# Altium footprint library SFMC-107-02.PcbLib: 1 footprints
Each footprint in its own frame and in the unit in brackets; x right, y up, seen from the top. Pads: shape width x height; smd on the part's side, far side on the other; paste and mask are expansions set on the pad; w line width, h text height; cw(c..) or ccw(c..) is an arc to the next point about the centre after c.
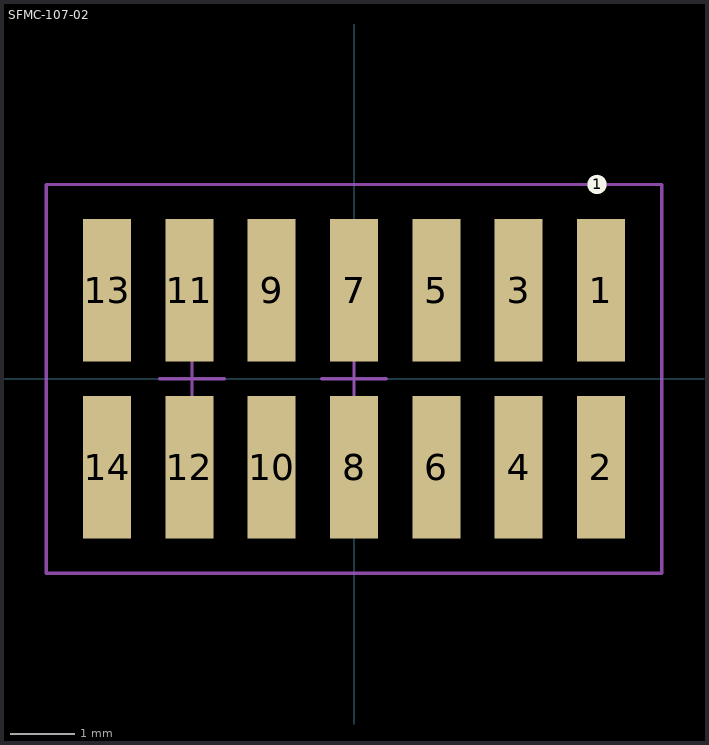
[diagram p0: the footprint, top view; thin cyan lines are the x and y axes]

## SFMC-107-02 [mm] "Samtec SFMC 14 pos 1.27mm female SMD socket"
height 4.57
pads (15):
  round 0.3 on Top Overlay: 1(3.75,3)
  rect 0.74x2.2 smd: 1(3.81,1.365) 2(3.81,-1.365) 3(2.54,1.365) 4(2.54,-1.365) 5(1.27,1.365) 6(1.27,-1.365) 7(0,1.365) 8(0,-1.365) 9(-1.27,1.365) 10(-1.27,-1.365) 11(-2.54,1.365) 12(-2.54,-1.365) 13(-3.81,1.365) 14(-3.81,-1.365)
Top Courtyard:
  lines w0.05: -3,0 -2,0 ; -2.5,-0.5 -2.5,0.5 ; -0.5,0 0.5,0 ; 0,-0.5 0,0.5 ; -4.75,-3 -4.75,3 4.75,3 4.75,-3 -4.75,-3